# Altium schematic symbol library MT41J128M16HA.SchLib: 1 symbol
Pins are listed as number, name and electrical type; pins without a type are passive.

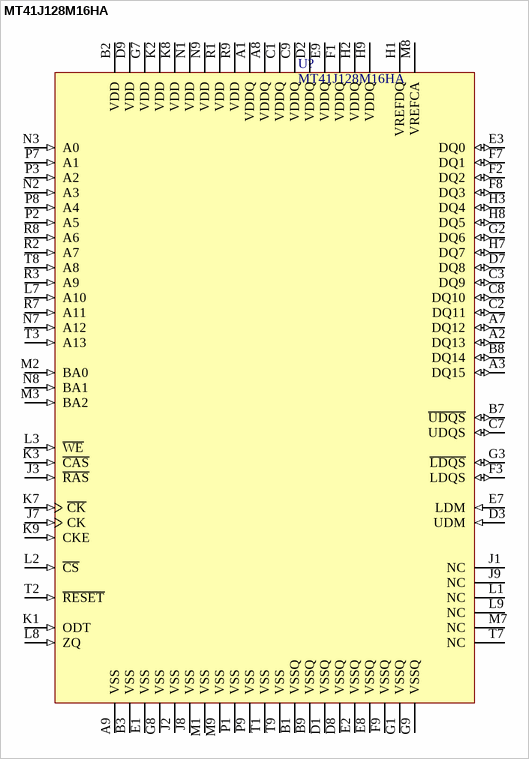
[diagram p0: symbol MT41J128M16HA]

## MT41J128M16HA
designator U?
signal-integrity model Model Name (Model Description)
pins: A1 VDDQ (power) "DQ Power", A2 DQ13 (io) "Data Input/Output 13", A3 DQ15 (io) "Data Input/Output 15", A7 DQ12 (io) "Data Input/Output 12", A8 VDDQ (power) "DQ Power", A9 VSS (power) "Ground", B1 VSSQ (power) "DQ Ground", B2 VDD (power) "Power Supply", B3 VSS (power) "Ground", B7 ~{UDQS} (io) "Upper Byte Data Strobe", B8 DQ14 (io) "Data Input/Output 14", B9 VSSQ (power) "DQ Ground", C1 VDDQ (power) "DQ Power", C2 DQ11 (io) "Data Input/Output 11", C3 DQ9 (io) "Data Input/Output 9", C7 UDQS (io) "Upper Byte Data Strobe", C8 DQ10 (io) "Data Input/Output 10", C9 VDDQ (power) "DQ Power", D1 VSSQ (power) "DQ Ground", D2 VDDQ (power) "DQ Power", D3 UDM (in) "Input/Output Mask for DQ8-DQ15", D7 DQ8 (io) "Data Input/Output 8", D8 VSSQ (power) "DQ Ground", D9 VDD (power) "Power Supply", E1 VSS (power) "Ground", E2 VSSQ (power) "DQ Ground", E3 DQ0 (io) "Data Input/Output 0", E7 LDM (in) "Input/Output Mask for DQ0-DQ7", E8 VSSQ (power) "DQ Ground", E9 VDDQ (power) "DQ Power", F1 VDDQ (power) "DQ Power", F2 DQ2 (io) "Data Input/Output 2", F3 LDQS (io) "Lower Byte Data Strobe", F7 DQ1 (io) "Data Input/Output 1", F8 DQ3 (io) "Data Input/Output 3", F9 VSSQ (power) "DQ Ground", G1 VSSQ (power) "DQ Ground", G2 DQ6 (io) "Data Input/Output 6", G3 ~{LDQS} (io) "Lower Byte Data Strobe", G7 VDD (power) "Power Supply", G8 VSS (power) "Ground", G9 VSSQ (power) "DQ Ground", H1 VREFDQ (power) "Reference voltage for data", H2 VDDQ (power) "DQ Power", H3 DQ4 (io) "Data Input/Output 4", H7 DQ7 (io) "Data Input/Output 7", H8 DQ5 (io) "Data Input/Output 5", H9 VDDQ (power) "DQ Power", J1 NC "No Connect", J2 VSS (power) "Ground", J3 ~{RAS} (in) "Command Input", J7 CK (in) "Clock", J8 VSS (power) "Ground", J9 NC "No Connect", K1 ODT (in) "On-die-termination control input", K2 VDD (power) "Power Supply", K3 ~{CAS} (in) "Command Input", K7 ~{CK} (in) "Clock", K8 VDD (power) "Power Supply", K9 CKE (in) "Clock Enable", L1 NC "No Connect", L2 ~{CS} (in) "Chip Select", L3 ~{WE} (in) "Command Input", L7 A10 (in) "Address Input 10", L8 ZQ (in) "External reference ball for output drive calibration", L9 NC "No Connect", M1 VSS (power) "Ground", M2 BA0 (in) "Bank Address Input 0", M3 BA2 (in) "Bank Address Input 2", M7 NC "No Connect", M8 VREFCA (power) "Reference voltage for control, command, and address", M9 VSS (power) "Ground", N1 VDD (power) "Power Supply", N2 A3 (in) "Address Input 3", N3 A0 (in) "Address Input 0", N7 A12 (in) "Address Input 12", N8 BA1 (in) "Bank Address Input 1", N9 VDD (power) "Power Supply", P1 VSS (power) "Ground", P2 A5 (in) "Address Input 5", P3 A2 (in) "Address Input 2", P7 A1 (in) "Address Input 1", P8 A4 (in) "Address Input 4", P9 VSS (power) "Ground", R1 VDD (power) "Power Supply", R2 A7 (in) "Address Input 7", R3 A9 (in) "Address Input 9", R7 A11 (in) "Address Input 11", R8 A6 (in) "Address Input 6", R9 VDD (power) "Power Supply", T1 VSS (power) "Ground", T2 ~{RESET} (in) "Reset input", T3 A13 (in) "Address Input 13", T7 NC "No Connect", T8 A8 (in) "Address Input 8", T9 VSS (power) "Ground"